# EAGLE library part HV5530PJ-G (library Group Electornics Library v80)
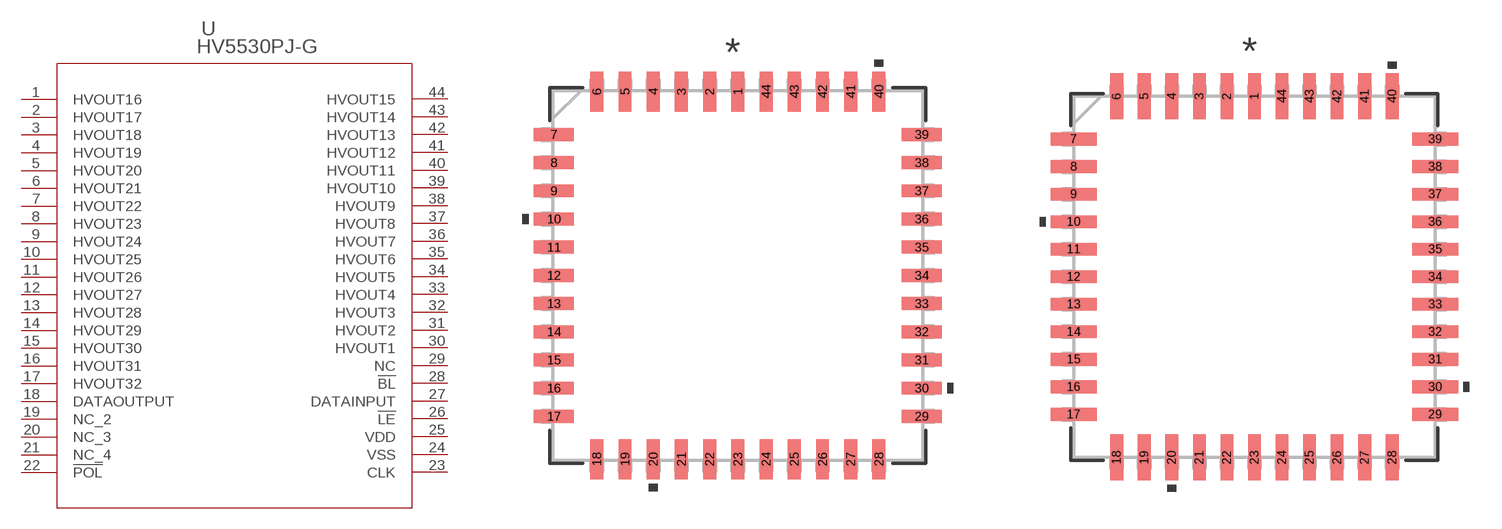
[diagram p6: symbol with the pads of PLCC44_MC_MCH; footprints PLCC44_MC_MCH, PLCC44_MC_MCH-M]

Designator prefix U

## HV5530PJ-GPLCC44_MC_MCH (COPYRIGHT: Copyright (C) 2024 Ultra Librarian. All rights reserved.; MANUFACTURER_PART_NUMBER: HV5530PJ-G; MFR_NAME: Microchip)  [PLCC44_MC_MCH]
1  HVOUT16  out
2  HVOUT17  out
3  HVOUT18  out
4  HVOUT19  out
5  HVOUT20  out
6  HVOUT21  out
7  HVOUT22  out
8  HVOUT23  out
9  HVOUT24  out
10  HVOUT25  out
11  HVOUT26  out
12  HVOUT27  out
13  HVOUT28  out
14  HVOUT29  out
15  HVOUT30  out
16  HVOUT31  out
17  HVOUT32  out
18  DATAOUTPUT  out
19  NC_2  nc
20  NC_3  nc
21  NC_4  nc
22  !POL  pas
23  CLK  in
24  VSS  pwr
25  VDD  pwr
26  !LE  in
27  DATAINPUT  in
28  !BL  pas
29  NC  nc
30  HVOUT1  out
31  HVOUT2  out
32  HVOUT3  out
33  HVOUT4  out
34  HVOUT5  out
35  HVOUT6  out
36  HVOUT7  out
37  HVOUT8  out
38  HVOUT9  out
39  HVOUT10  out
40  HVOUT11  out
41  HVOUT12  out
42  HVOUT13  out
43  HVOUT14  out
44  HVOUT15  out

## HV5530PJ-GPLCC44_MC_MCH-M (COPYRIGHT: Copyright (C) 2024 Ultra Librarian. All rights reserved.; MANUFACTURER_PART_NUMBER: HV5530PJ-G; MFR_NAME: Microchip)  [PLCC44_MC_MCH-M]
Pads as for PLCC44_MC_MCH

## HV5530PJ-GPLCC44_MC_MCH-L (COPYRIGHT: Copyright (C) 2024 Ultra Librarian. All rights reserved.; MANUFACTURER_PART_NUMBER: HV5530PJ-G; MFR_NAME: Microchip)  [PLCC44_MC_MCH-L]
Pads as for PLCC44_MC_MCH

## Footprint PLCC44_MC_MCH (pad centres in mm)
smd 0.584 x 1.803: 1 0,8.28; 2 -1.27,8.28; 3 -2.54,8.28; 4 -3.81,8.28; 5 -5.08,8.28; 6 -6.35,8.28; 18 -6.35,-8.28; 19 -5.08,-8.28; 20 -3.81,-8.28; 21 -2.54,-8.28; 22 -1.27,-8.28; 23 0,-8.28; 24 1.27,-8.28; 25 2.54,-8.28; 26 3.81,-8.28; 27 5.08,-8.28; 28 6.35,-8.28; 40 6.35,8.28; 41 5.08,8.28; 42 3.81,8.28; 43 2.54,8.28; 44 1.27,8.28
smd 1.803 x 0.584: 7 -8.28,6.35; 8 -8.28,5.08; 9 -8.28,3.81; 10 -8.28,2.54; 11 -8.28,1.27; 12 -8.28,0; 13 -8.28,-1.27; 14 -8.28,-2.54; 15 -8.28,-3.81; 16 -8.28,-5.08; 17 -8.28,-6.35; 29 8.28,-6.35; 30 8.28,-5.08; 31 8.28,-3.81; 32 8.28,-2.54; 33 8.28,-1.27; 34 8.28,0; 35 8.28,1.27; 36 8.28,2.54; 37 8.28,3.81; 38 8.28,5.08; 39 8.28,6.35

## Footprint PLCC44_MC_MCH-M (pad centres in mm)
smd 0.584 x 2.108: 1 0,8.331; 2 -1.27,8.331; 3 -2.54,8.331; 4 -3.81,8.331; 5 -5.08,8.331; 6 -6.35,8.331; 18 -6.35,-8.331; 19 -5.08,-8.331; 20 -3.81,-8.331; 21 -2.54,-8.331; 22 -1.27,-8.331; 23 0,-8.331; 24 1.27,-8.331; 25 2.54,-8.331; 26 3.81,-8.331; 27 5.08,-8.331; 28 6.35,-8.331; 40 6.35,8.331; 41 5.08,8.331; 42 3.81,8.331; 43 2.54,8.331; 44 1.27,8.331
smd 2.108 x 0.584: 7 -8.331,6.35; 8 -8.331,5.08; 9 -8.331,3.81; 10 -8.331,2.54; 11 -8.331,1.27; 12 -8.331,0; 13 -8.331,-1.27; 14 -8.331,-2.54; 15 -8.331,-3.81; 16 -8.331,-5.08; 17 -8.331,-6.35; 29 8.331,-6.35; 30 8.331,-5.08; 31 8.331,-3.81; 32 8.331,-2.54; 33 8.331,-1.27; 34 8.331,0; 35 8.331,1.27; 36 8.331,2.54; 37 8.331,3.81; 38 8.331,5.08; 39 8.331,6.35

## Footprint PLCC44_MC_MCH-L (pad centres in mm)
smd 0.533 x 1.499: 1 0,8.23; 2 -1.27,8.23; 3 -2.54,8.23; 4 -3.81,8.23; 5 -5.08,8.23; 6 -6.35,8.23; 18 -6.35,-8.23; 19 -5.08,-8.23; 20 -3.81,-8.23; 21 -2.54,-8.23; 22 -1.27,-8.23; 23 0,-8.23; 24 1.27,-8.23; 25 2.54,-8.23; 26 3.81,-8.23; 27 5.08,-8.23; 28 6.35,-8.23; 40 6.35,8.23; 41 5.08,8.23; 42 3.81,8.23; 43 2.54,8.23; 44 1.27,8.23
smd 1.499 x 0.533: 7 -8.23,6.35; 8 -8.23,5.08; 9 -8.23,3.81; 10 -8.23,2.54; 11 -8.23,1.27; 12 -8.23,0; 13 -8.23,-1.27; 14 -8.23,-2.54; 15 -8.23,-3.81; 16 -8.23,-5.08; 17 -8.23,-6.35; 29 8.23,-6.35; 30 8.23,-5.08; 31 8.23,-3.81; 32 8.23,-2.54; 33 8.23,-1.27; 34 8.23,0; 35 8.23,1.27; 36 8.23,2.54; 37 8.23,3.81; 38 8.23,5.08; 39 8.23,6.35